# EAGLE library part C8051F300 (library micro-silabs)
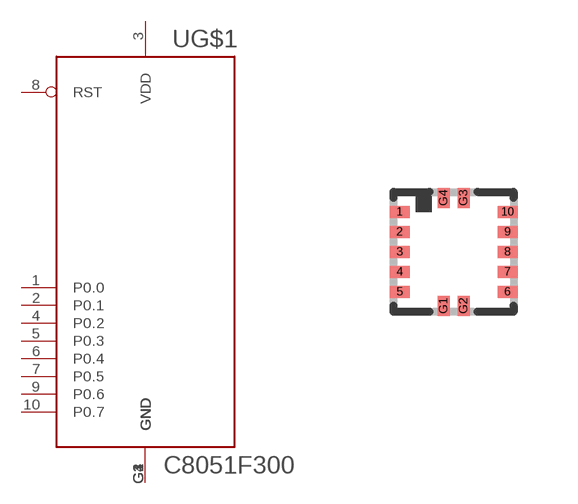
[diagram p34: symbol with the pads of MLP11; footprint MLP11]

Designator prefix -; gates G$1=C8051F30X_11 G$2=GND G$3=GND G$4=GND

## C8051F300  [MLP11]
1  G$1:P0.0
2  G$1:P0.1
3  G$1:VDD  pwr
4  G$1:P0.2
5  G$1:P0.3
6  G$1:P0.4
7  G$1:P0.5
8  G$1:RST
9  G$1:P0.6
10  G$1:P0.7
G1  G$1:GND  pwr
G2  G$2:GND  pwr
G3  G$3:GND  pwr
G4  G$4:GND  pwr

## Footprint MLP11 (pad centres in mm)
Cygnal MLP11
smd 0.5 x 0.3: 1 -1.35,1; 2 -1.35,0.5; 3 -1.35,0; 4 -1.35,-0.5; 5 -1.35,-1; 6 1.35,-1; 7 1.35,-0.5; 8 1.35,0; 9 1.35,0.5; 10 1.35,1
smd 0.3 x 0.5: G1 -0.25,-1.35; G2 0.25,-1.35; G3 0.25,1.35; G4 -0.25,1.35